# EAGLE library part MAGJACK (library Connector)
CONN MAGJACK 1PORT 100 BASE-T
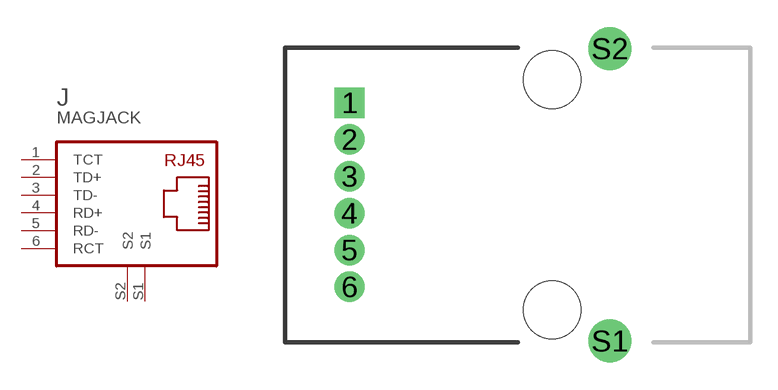
[diagram p1: symbol with the pads of MAGJACK-08B11X1T36-F; footprint MAGJACK-08B11X1T36-F]

Designator prefix J

## MAGJACK-08B1-1X1T-36-F  [MAGJACK-08B11X1T36-F]
1  TCT  pas
2  TD+  pas
3  TD-  pas
4  RD+  pas
5  RD-  pas
6  RCT  pas
S1  S1  pas
S2  S2  pas

## Footprint MAGJACK-08B11X1T36-F (pad centres in mm)
MAGJACK 08B1-1X1T-36-F Datasheet <http://belfuse.com/pdfs/08B1-1X1T-36-F.pdf> Digikey <http://www.digikey.com/product-detail/en/08B1-1X1T-36-F/507-1572-ND/2108231>
drill 0.914 pad 1.676 square: 1 -11.176,5.08
drill 0.914 pad 1.676: 2 -11.176,3.048; 3 -11.176,1.016; 4 -11.176,-1.016; 5 -11.176,-3.048; 6 -11.176,-5.08
drill 1.575: S1 3.175,-8.065; S2 3.175,8.065
hole 3.175 at 0,-6.35
hole 3.175 at 0,6.35